# EAGLE library part TDA7387 (library PP_AnalogIC)
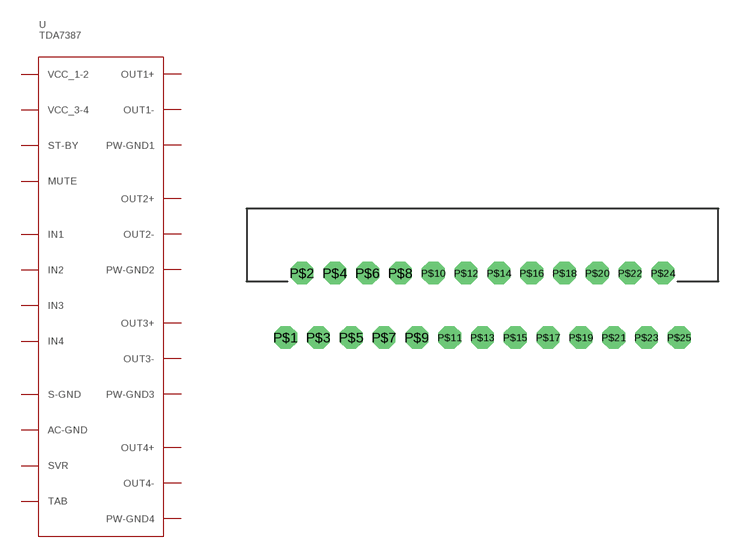
[diagram p9: symbol with the pads of TDA7387-FLEXIWATT-25; footprint TDA7387-FLEXIWATT-25]

Designator prefix U

## TDA7387  [TDA7387-FLEXIWATT-25]
P$1  TAB
P$2  PW-GND2
P$3  OUT2-
P$4  ST-BY
P$5  OUT2+
P$6  VCC_1-2
P$7  OUT1-
P$8  PW-GND1
P$9  OUT1+
P$10  SVR
P$11  IN1
P$12  IN2
P$13  S-GND
P$14  IN4
P$15  IN3
P$16  AC-GND
P$17  OUT3+
P$18  PW-GND3
P$19  OUT3-
P$20  VCC_3-4
P$21  OUT4+
P$22  MUTE
P$23  OUT4-
P$24  PW-GND4

## Footprint TDA7387-FLEXIWATT-25 (pad centres in mm)
drill 0.9 octagon: P$1 -12.192,0; P$2 -11.176,3.988; P$3 -10.16,0; P$4 -9.144,3.988; P$5 -8.128,0; P$6 -7.112,3.988; P$7 -6.096,0; P$8 -5.08,3.988; P$9 -4.064,0; P$10 -3.048,3.988; P$11 -2.032,0; P$12 -1.016,3.988; P$13 0,0; P$14 1.016,3.988; P$15 2.032,0; P$16 3.048,3.988; P$17 4.064,0; P$18 5.08,3.988; P$19 6.096,0; P$20 7.112,3.988; P$21 8.128,0; P$22 9.144,3.988; P$23 10.16,0; P$24 11.176,3.988; P$25 12.192,0